# Altium integrated library BB Converter Digital to Analog.IntLib: 269 symbols (part 6 of 6)
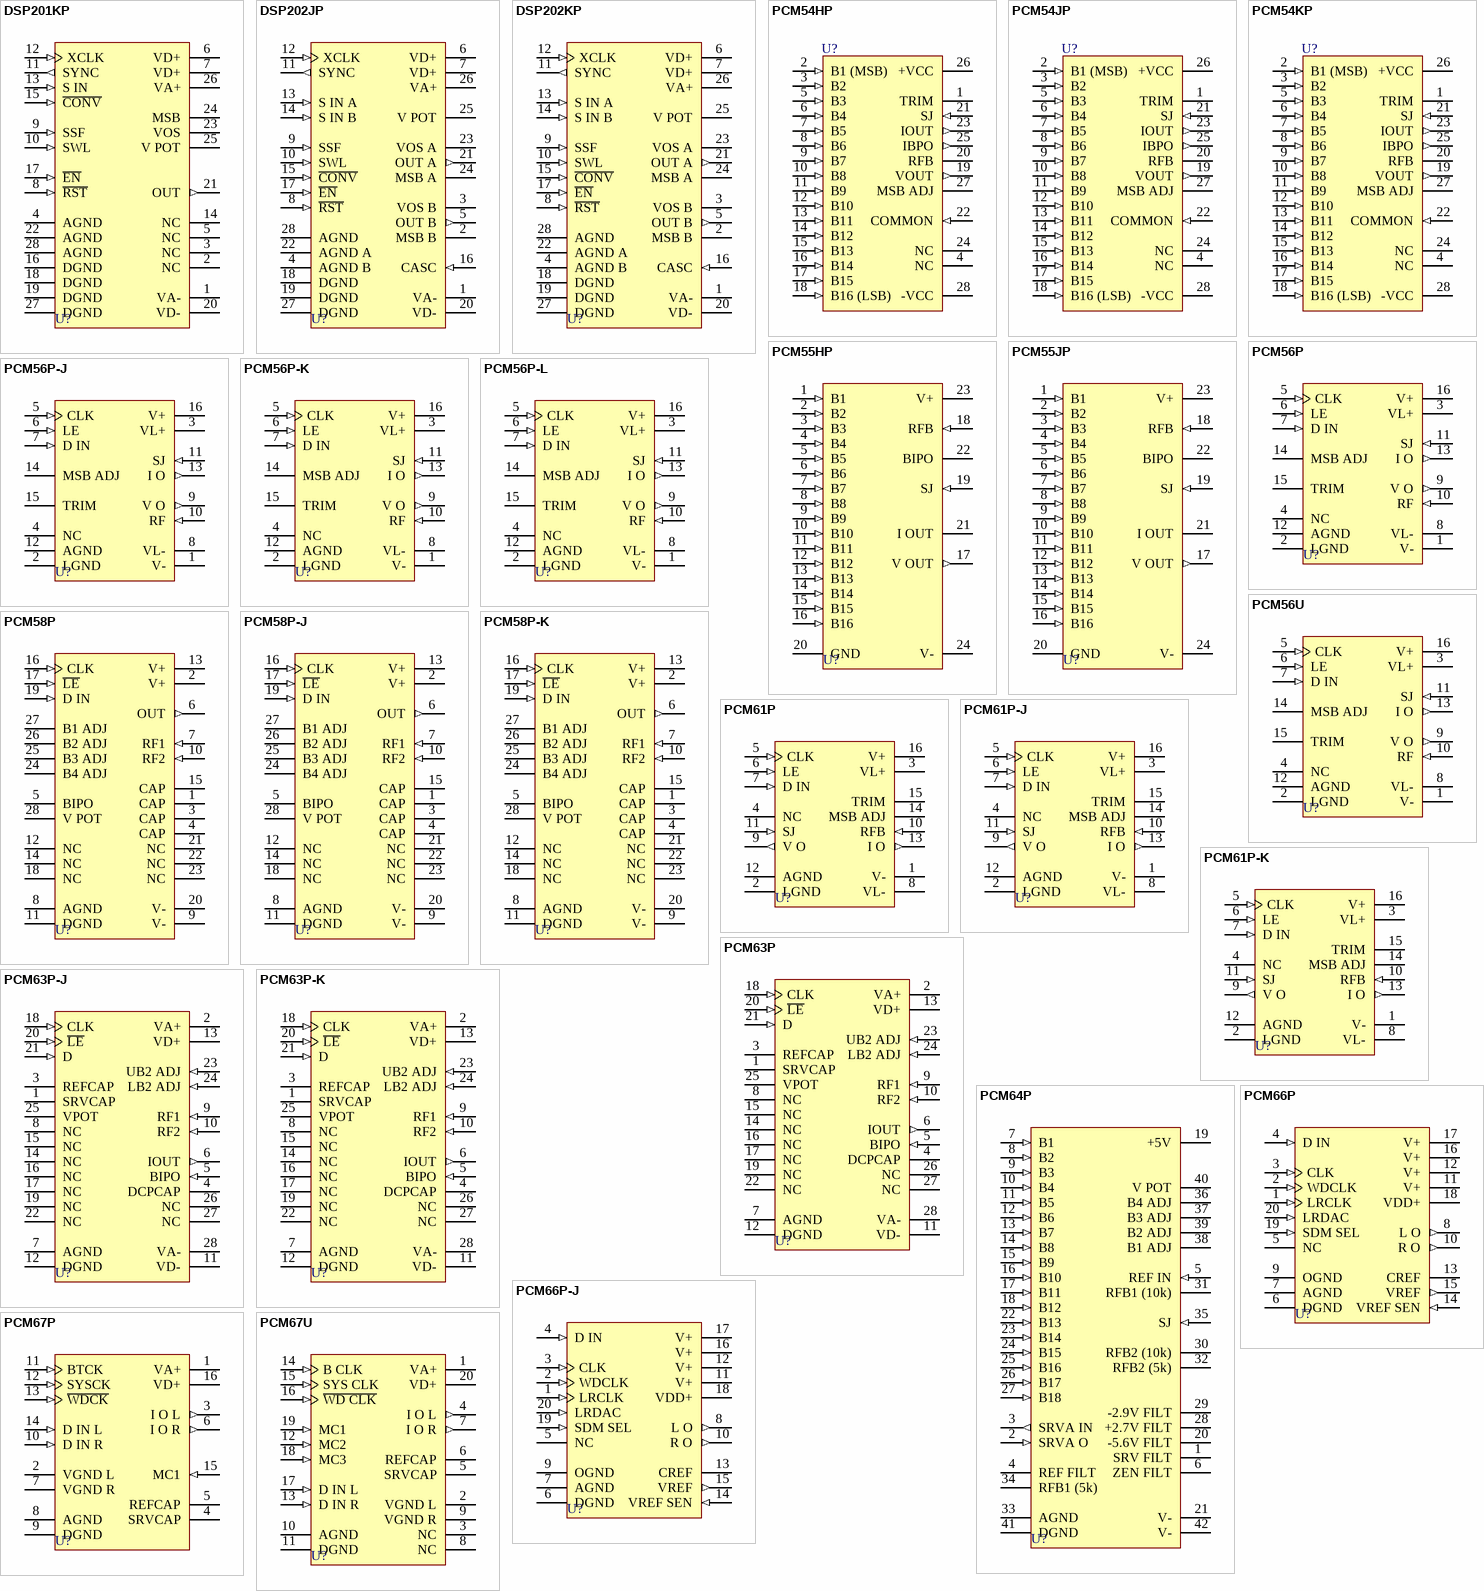
[diagram p15: symbols DSP201KP to PCM67U]

## PCM63P
designator U?
Colinear 20-Bit Monolithic Audio Digital-to-Analog Converter; Note: Pin 8,14,15,16,17,19,22,26 and 27 are No internal Connection (NC) pins.; Published: 8-Jun-2000; LatestRevisionDate: 06-Jun-2005; LatestRevisionNote: Stylized 3D Model Added.; DatasheetVersion: Jan-1998; PackageVersion: revJ; PackageReference: 215J; Publisher: Altium Limited; PackageDescription: DIP; 28 Leads; Row Spacing 15.24 mm; Pitch 2.54 mm; Code_JEDEC: MS-011-AB; ComponentLink1Description: Manufacturer Link; ComponentLink1URL: http://www.ti.com/; ComponentLink2Description: Datasheet; ComponentLink2URL: http://www-s.ti.com/sc/ds/PCM63.pdf
footprint 215J (DIP; 28 Leads; Row Spacing 15.24 mm; Pitch 2.54 mm)
3D model 215J (DIP; 28 Leads; Row Spacing 15.24 mm; Pitch 2.54 mm)
pins: 1 SRVCAP, 2 VA+ (power), 3 REFCAP, 4 DCPCAP, 5 BIPO (in), 6 IOUT (out), 7 AGND (power), 8 NC, 9 RF1 (in), 10 RF2 (in), 11 VD- (power), 12 DGND (power), 13 VD+ (power), 14 NC, 15 NC, 16 NC, 17 NC, 18 CLK (in), 19 NC, 20 ~{LE} (in), 21 D (in), 22 NC, 23 UB2 ADJ (in), 24 LB2 ADJ (in), 25 VPOT, 26 NC, 27 NC, 28 VA- (power)

## PCM63P-J
designator U?
Colinear 20-Bit Monolithic Audio Digital-to-Analog Converter; Note: Pin 8,14,15,16,17,19,22,26 and 27 are No internal Connection (NC) pins.; Published: 8-Jun-2000; LatestRevisionDate: 06-Jun-2005; LatestRevisionNote: Stylized 3D Model Added.; DatasheetVersion: Jan-1998; PackageVersion: revJ; PackageReference: 215J; Publisher: Altium Limited; PackageDescription: DIP; 28 Leads; Row Spacing 15.24 mm; Pitch 2.54 mm; Code_JEDEC: MS-011-AB; ComponentLink1Description: Manufacturer Link; ComponentLink1URL: http://www.ti.com/; ComponentLink2Description: Datasheet; ComponentLink2URL: http://www-s.ti.com/sc/ds/PCM63.pdf
footprint 215J (DIP; 28 Leads; Row Spacing 15.24 mm; Pitch 2.54 mm)
3D model 215J (DIP; 28 Leads; Row Spacing 15.24 mm; Pitch 2.54 mm)
pins: 1 SRVCAP, 2 VA+ (power), 3 REFCAP, 4 DCPCAP, 5 BIPO (in), 6 IOUT (out), 7 AGND (power), 8 NC, 9 RF1 (in), 10 RF2 (in), 11 VD- (power), 12 DGND (power), 13 VD+ (power), 14 NC, 15 NC, 16 NC, 17 NC, 18 CLK (in), 19 NC, 20 ~{LE} (in), 21 D (in), 22 NC, 23 UB2 ADJ (in), 24 LB2 ADJ (in), 25 VPOT, 26 NC, 27 NC, 28 VA- (power)

## PCM63P-K
designator U?
Colinear 20-Bit Monolithic Audio Digital-to-Analog Converter; Note: Pin 8,14,15,16,17,19,22,26 and 27 are No internal Connection (NC) pins.; Published: 8-Jun-2000; LatestRevisionDate: 06-Jun-2005; LatestRevisionNote: Stylized 3D Model Added.; DatasheetVersion: Jan-1998; PackageVersion: revJ; PackageReference: 215J; Publisher: Altium Limited; PackageDescription: DIP; 28 Leads; Row Spacing 15.24 mm; Pitch 2.54 mm; Code_JEDEC: MS-011-AB; ComponentLink1Description: Manufacturer Link; ComponentLink1URL: http://www.ti.com/; ComponentLink2Description: Datasheet; ComponentLink2URL: http://www-s.ti.com/sc/ds/PCM63.pdf
footprint 215J (DIP; 28 Leads; Row Spacing 15.24 mm; Pitch 2.54 mm)
3D model 215J (DIP; 28 Leads; Row Spacing 15.24 mm; Pitch 2.54 mm)
pins: 1 SRVCAP, 2 VA+ (power), 3 REFCAP, 4 DCPCAP, 5 BIPO (in), 6 IOUT (out), 7 AGND (power), 8 NC, 9 RF1 (in), 10 RF2 (in), 11 VD- (power), 12 DGND (power), 13 VD+ (power), 14 NC, 15 NC, 16 NC, 17 NC, 18 CLK (in), 19 NC, 20 ~{LE} (in), 21 D (in), 22 NC, 23 UB2 ADJ (in), 24 LB2 ADJ (in), 25 VPOT, 26 NC, 27 NC, 28 VA- (power)

## PCM64P
designator U?
18-Bit Audio Digital-to-Analog Converter; Published: 8-Jun-2000; LatestRevisionDate: 06-Jun-2005; LatestRevisionNote: Stylized 3D Model Added.; DatasheetVersion: 1989; PackageReference: DIP42; Publisher: Altium Limited; PackageDescription: DIP; 42 Leads; Row Spacing 15.24 mm; Pitch 1.78 mm; ComponentLink1Description: Manufacturer Link; ComponentLink1URL: http://www.ti.com/
footprint DIP42 (DIP; 42 Leads; Row Spacing 15.24 mm; Pitch 1.78 mm)
3D model DIP42 (DIP; 42 Leads; Row Spacing 15.24 mm; Pitch 1.78 mm)
pins: 1 SRV FILT, 2 SRVA O (in), 3 SRVA IN (out), 4 REF FILT, 5 REF IN (in), 6 ZEN FILT, 7 B1 (in), 8 B2 (in), 9 B3 (in), 10 B4 (in), 11 B5 (in), 12 B6 (in), 13 B7 (in), 14 B8 (in), 15 B9 (in), 16 B10 (in), 17 B11 (in), 18 B12 (in), 19 +5V (power), 20 -5.6V FILT, 21 V- (power), 22 B13 (in), 23 B14 (in), 24 B15 (in), 25 B16 (in), 26 B17 (in), 27 B18 (in), 28 +2.7V FILT, 29 -2.9V FILT, 30 RFB2 (10k), 31 RFB1 (10k), 32 RFB2 (5k), 33 AGND (power), 34 RFB1 (5k), 35 SJ (in), 36 B4 ADJ, 37 B3 ADJ, 38 B1 ADJ, 39 B2 ADJ, 40 V POT, 41 DGND (power), 42 V- (power)

## PCM66P
designator U?
16-Bit CMOS Monolithic Audio Digital-to-Analog Converter; Note: Pin 5 is No internal Connection (NC) pin.; Published: 8-Jun-2000; LatestRevisionDate: 13-Apr-2006; LatestRevisionNote: IPC-7351 Footprint Added.; DatasheetVersion: 1994; PackageReference: 248B; Publisher: Altium Limited; PackageDescription: 20-Pin Small Outline Package 1.27 mm Pitch; ComponentLink1Description: Manufacturer Link; ComponentLink1URL: http://www.ti.com/
footprint 248B_N (SOP, 20-Leads, Body 12.6x5.3mm, Pitch 1.27mm, IPC Medium Density)
footprint 248B_L (SOP, 20-Leads, Body 12.6x5.3mm, Pitch 1.27mm, IPC High Density)
footprint 248B_M (SOP, 20-Leads, Body 12.6x5.3mm, Pitch 1.27mm, IPC Low Density)
3D model 248B (20-Pin Small Outline Package 1.27 mm Pitch)
pins: 1 LRCLK (in), 2 WDCLK (in), 3 CLK (in), 4 D IN (in), 5 NC, 6 DGND (power), 7 AGND (power), 8 L O (out), 9 OGND (power), 10 R O (out), 11 V+ (power), 12 V+ (power), 13 CREF, 14 VREF SEN (in), 15 VREF (out), 16 V+ (power), 17 V+ (power), 18 VDD+ (power), 19 SDM SEL (in), 20 LRDAC (in)

## PCM66P-J
designator U?
16-Bit CMOS Monolithic Audio Digital-to-Analog Converter; Note: Pin 5 is No internal Connection (NC) pin.; Published: 8-Jun-2000; LatestRevisionDate: 13-Apr-2006; LatestRevisionNote: IPC-7351 Footprint Added.; DatasheetVersion: 1994; PackageReference: 248B; Publisher: Altium Limited; PackageDescription: 20-Pin Small Outline Package 1.27 mm Pitch; ComponentLink1Description: Manufacturer Link; ComponentLink1URL: http://www.ti.com/
footprint 248B_N (SOP, 20-Leads, Body 12.6x5.3mm, Pitch 1.27mm, IPC Medium Density)
footprint 248B_L (SOP, 20-Leads, Body 12.6x5.3mm, Pitch 1.27mm, IPC High Density)
footprint 248B_M (SOP, 20-Leads, Body 12.6x5.3mm, Pitch 1.27mm, IPC Low Density)
3D model 248B (20-Pin Small Outline Package 1.27 mm Pitch)
pins: 1 LRCLK (in), 2 WDCLK (in), 3 CLK (in), 4 D IN (in), 5 NC, 6 DGND (power), 7 AGND (power), 8 L O (out), 9 OGND (power), 10 R O (out), 11 V+ (power), 12 V+ (power), 13 CREF, 14 VREF SEN (in), 15 VREF (out), 16 V+ (power), 17 V+ (power), 18 VDD+ (power), 19 SDM SEL (in), 20 LRDAC (in)

## PCM67P
designator U?
Advanced 1 Bit BiCMOS Dual 18-Bit Digital-to-Analog Converter; Published: 8-Jun-2000; LatestRevisionDate: 06-Jun-2005; LatestRevisionNote: Stylized 3D Model Added.; DatasheetVersion: Aug-1993; PackageVersion: revF; PackageReference: ZZ180; Publisher: Altium Limited; PackageDescription: DIP, Plastic; 16 Leads; Row Spacing 7.62 mm; Pitch 2.54 mm; Code_JEDEC: MS-001-BB; ComponentLink1Description: Manufacturer Link; ComponentLink1URL: http://www.ti.com/; ComponentLink2Description: Datasheet; ComponentLink2URL: http://www-s.ti.com/sc/ds/PCM69.pdf
footprint ZZ180 (DIP, Plastic; 16 Leads; Row Spacing 7.62 mm; Pitch 2.54 mm)
3D model ZZ180 (DIP, Plastic; 16 Leads; Row Spacing 7.62 mm; Pitch 2.54 mm)
pins: 1 VA+ (power), 2 VGND L (power), 3 I O L (out), 4 SRVCAP, 5 REFCAP, 6 I O R (out), 7 VGND R (power), 8 AGND (power), 9 DGND (power), 10 D IN R (in), 11 BTCK (in), 12 SYSCK (in), 13 ~{WDCK} (in), 14 D IN L (in), 15 MC1 (in), 16 VD+ (power)

## PCM67U
designator U?
Advanced 1 Bit BiCMOS Dual 18-Bit Digital-to-Analog Converter; Note: Pin 3 and 8 are No internal Connection (NC) pins.; Published: 8-Jun-2000; LatestRevisionDate: 13-Apr-2006; LatestRevisionNote: IPC-7351 Footprint Added.; DatasheetVersion: Aug-1993; PackageReference: 248B; Publisher: Altium Limited; PackageDescription: 20-Pin Small Outline Package 1.27 mm Pitch; ComponentLink1Description: Manufacturer Link; ComponentLink1URL: http://www.ti.com/; ComponentLink2Description: Datasheet; ComponentLink2URL: http://www-s.ti.com/sc/ds/PCM69.pdf
footprint 248B_N (SOP, 20-Leads, Body 12.6x5.3mm, Pitch 1.27mm, IPC Medium Density)
footprint 248B_L (SOP, 20-Leads, Body 12.6x5.3mm, Pitch 1.27mm, IPC High Density)
footprint 248B_M (SOP, 20-Leads, Body 12.6x5.3mm, Pitch 1.27mm, IPC Low Density)
3D model 248B (20-Pin Small Outline Package 1.27 mm Pitch)
pins: 1 VA+ (power), 2 VGND L (power), 3 NC, 4 I O L (out), 5 SRVCAP, 6 REFCAP, 7 I O R (out), 8 NC, 9 VGND R (power), 10 AGND (power), 11 DGND (power), 12 MC2 (in), 13 D IN R (in), 14 B CLK (in), 15 SYS CLK (in), 16 ~{WD CLK} (in), 17 D IN L (in), 18 MC3 (in), 19 MC1 (in), 20 VD+ (power)

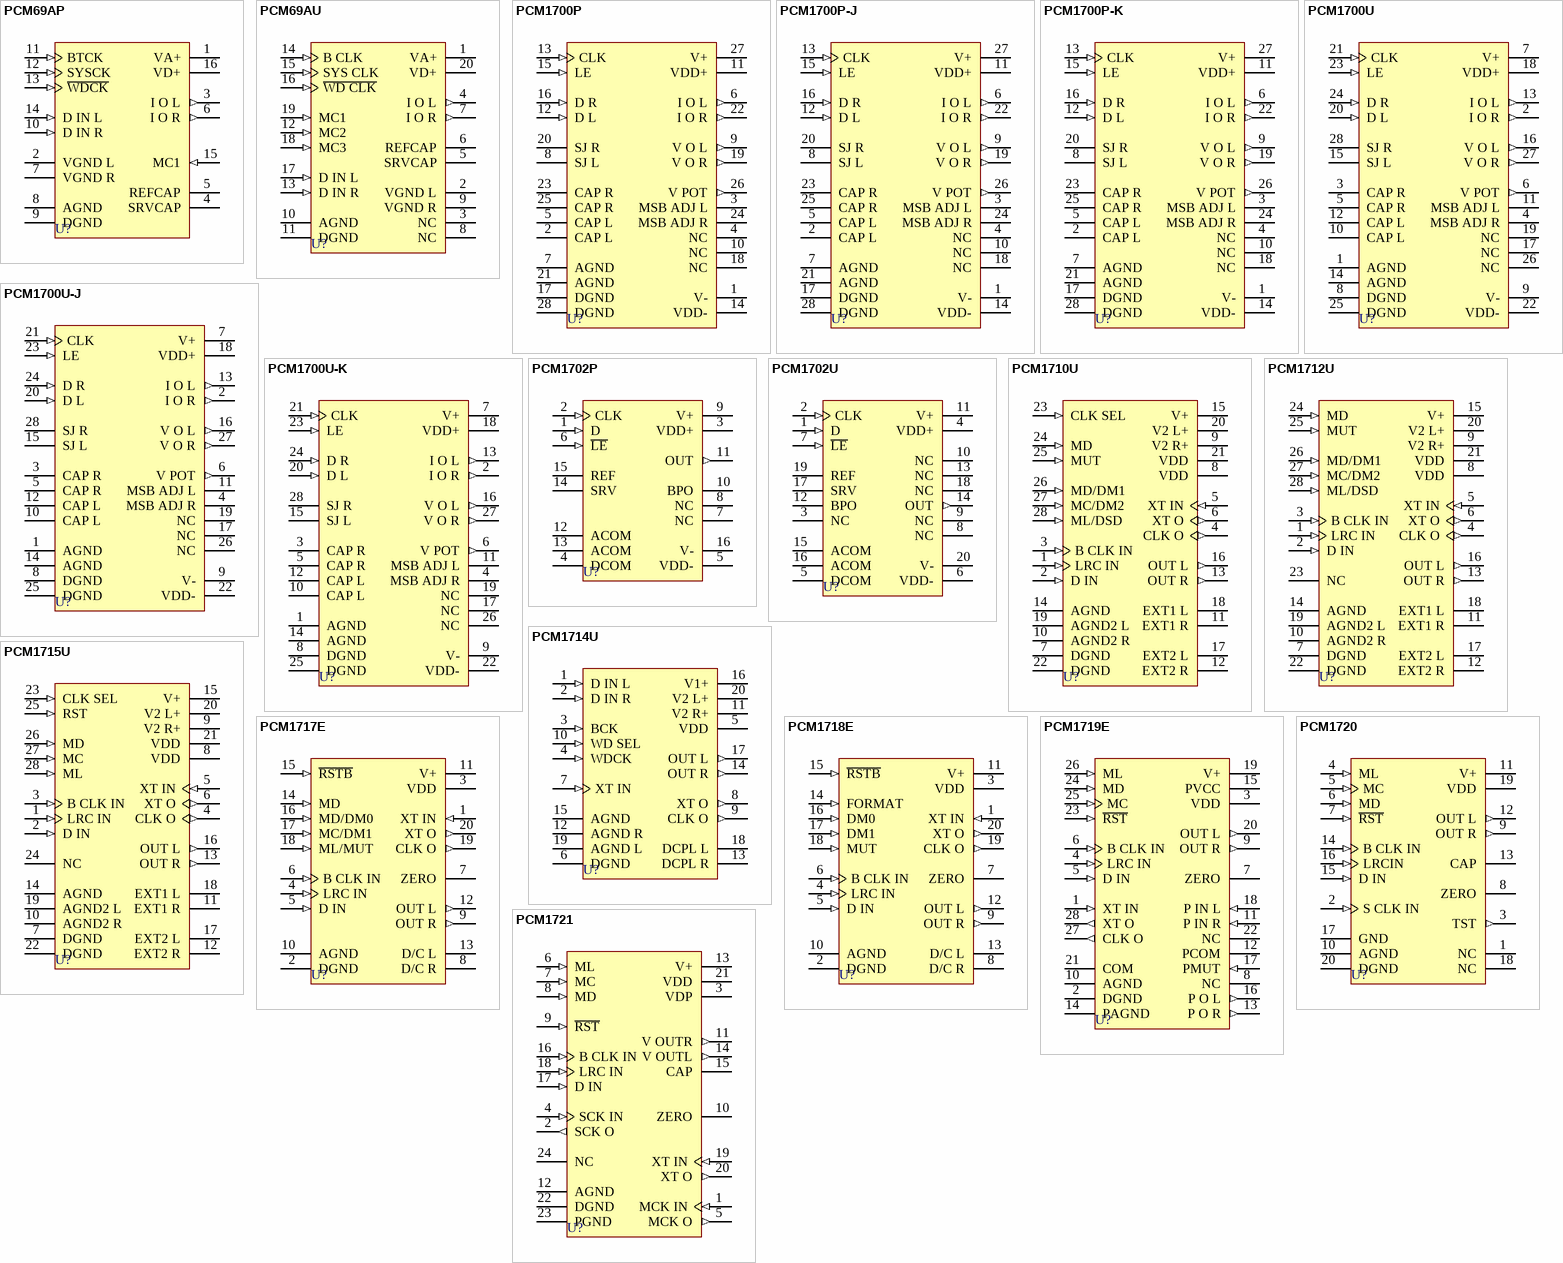
[diagram p10: symbols PCM69AP to PCM1721]

## PCM69AP
designator U?
Advanced 1 Bit BiCMOS Dual 18-Bit Digital-to-Analog Converter; Published: 8-Jun-2000; LatestRevisionDate: 06-Jun-2005; LatestRevisionNote: Stylized 3D Model Added.; DatasheetVersion: Aug-1993; PackageVersion: revF; PackageReference: ZZ180; Publisher: Altium Limited; PackageDescription: DIP, Plastic; 16 Leads; Row Spacing 7.62 mm; Pitch 2.54 mm; Code_JEDEC: MS-001-BB; ComponentLink1Description: Manufacturer Link; ComponentLink1URL: http://www.ti.com/; ComponentLink2Description: Datasheet; ComponentLink2URL: http://www-s.ti.com/sc/ds/PCM69.pdf
footprint ZZ180 (DIP, Plastic; 16 Leads; Row Spacing 7.62 mm; Pitch 2.54 mm)
3D model ZZ180 (DIP, Plastic; 16 Leads; Row Spacing 7.62 mm; Pitch 2.54 mm)
pins: 1 VA+ (power), 2 VGND L (power), 3 I O L (out), 4 SRVCAP, 5 REFCAP, 6 I O R (out), 7 VGND R (power), 8 AGND (power), 9 DGND (power), 10 D IN R (in), 11 BTCK (in), 12 SYSCK (in), 13 ~{WDCK} (in), 14 D IN L (in), 15 MC1 (in), 16 VD+ (power)

## PCM69AU
designator U?
Advanced 1 Bit BiCMOS Dual 18-Bit Digital-to-Analog Converter; Note: Pin 3 and 8 are No internal Connection (NC) pins.; Published: 8-Jun-2000; LatestRevisionDate: 13-Apr-2006; LatestRevisionNote: IPC-7351 Footprint Added.; DatasheetVersion: Aug-1993; PackageReference: 248B; Publisher: Altium Limited; PackageDescription: 20-Pin Small Outline Package 1.27 mm Pitch; ComponentLink1Description: Manufacturer Link; ComponentLink1URL: http://www.ti.com/; ComponentLink2Description: Datasheet; ComponentLink2URL: http://www-s.ti.com/sc/ds/PCM69.pdf
footprint 248B_N (SOP, 20-Leads, Body 12.6x5.3mm, Pitch 1.27mm, IPC Medium Density)
footprint 248B_L (SOP, 20-Leads, Body 12.6x5.3mm, Pitch 1.27mm, IPC High Density)
footprint 248B_M (SOP, 20-Leads, Body 12.6x5.3mm, Pitch 1.27mm, IPC Low Density)
3D model 248B (20-Pin Small Outline Package 1.27 mm Pitch)
pins: 1 VA+ (power), 2 VGND L (power), 3 NC, 4 I O L (out), 5 SRVCAP, 6 REFCAP, 7 I O R (out), 8 NC, 9 VGND R (power), 10 AGND (power), 11 DGND (power), 12 MC2 (in), 13 D IN R (in), 14 B CLK (in), 15 SYS CLK (in), 16 ~{WD CLK} (in), 17 D IN L (in), 18 MC3 (in), 19 MC1 (in), 20 VD+ (power)

## PCM1700P
designator U?
Dual 18-Bit Monolithic Audio Digital-to-Analog Converter; Note: Pins 4,10 and 18 are No internal Connection (NC) pins.; Published: 8-Jun-2000; LatestRevisionDate: 06-Jun-2005; LatestRevisionNote: Stylized 3D Model Added.; DatasheetVersion: Aug-1993; PackageVersion: revB; PackageReference: 126B; Publisher: Altium Limited; PackageDescription: DIP; 28 Leads; Row Spacing 15.24 mm; Pitch 2.54 mm; ComponentLink1Description: Manufacturer Link; ComponentLink1URL: http://www.ti.com/
footprint 126B (DIP; 28 Leads; Row Spacing 15.24 mm; Pitch 2.54 mm)
3D model P28 (DIP; 28 Leads; Row Spacing 15.24 mm; Pitch 2.54 mm)
pins: 1 V- (power), 2 CAP L, 3 MSB ADJ L, 4 NC, 5 CAP L, 6 I O L (out), 7 AGND (power), 8 SJ L, 9 V O L (out), 10 NC, 11 VDD+ (power), 12 D L (in), 13 CLK (in), 14 VDD- (power), 15 LE (in), 16 D R (in), 17 DGND (power), 18 NC, 19 V O R (out), 20 SJ R, 21 AGND (power), 22 I O R (out), 23 CAP R, 24 MSB ADJ R, 25 CAP R, 26 V POT (out), 27 V+ (power), 28 DGND (power)

## PCM1700P-J
designator U?
Dual 18-Bit Monolithic Audio Digital-to-Analog Converter; Note: Pins 4,10 and 18 are No internal Connection (NC) pins.; Published: 8-Jun-2000; LatestRevisionDate: 06-Jun-2005; LatestRevisionNote: Stylized 3D Model Added.; DatasheetVersion: Aug-1993; PackageVersion: revB; PackageReference: 126B; Publisher: Altium Limited; PackageDescription: DIP; 28 Leads; Row Spacing 15.24 mm; Pitch 2.54 mm; ComponentLink1Description: Manufacturer Link; ComponentLink1URL: http://www.ti.com/
footprint 126B (DIP; 28 Leads; Row Spacing 15.24 mm; Pitch 2.54 mm)
3D model P28 (DIP; 28 Leads; Row Spacing 15.24 mm; Pitch 2.54 mm)
pins: 1 V- (power), 2 CAP L, 3 MSB ADJ L, 4 NC, 5 CAP L, 6 I O L (out), 7 AGND (power), 8 SJ L, 9 V O L (out), 10 NC, 11 VDD+ (power), 12 D L (in), 13 CLK (in), 14 VDD- (power), 15 LE (in), 16 D R (in), 17 DGND (power), 18 NC, 19 V O R (out), 20 SJ R, 21 AGND (power), 22 I O R (out), 23 CAP R, 24 MSB ADJ R, 25 CAP R, 26 V POT (out), 27 V+ (power), 28 DGND (power)

## PCM1700P-K
designator U?
Dual 18-Bit Monolithic Audio Digital-to-Analog Converter; Note: Pins 4,10 and 18 are No internal Connection (NC) pins.; Published: 8-Jun-2000; LatestRevisionDate: 06-Jun-2005; LatestRevisionNote: Stylized 3D Model Added.; DatasheetVersion: Aug-1993; PackageVersion: revB; PackageReference: 126B; Publisher: Altium Limited; PackageDescription: DIP; 28 Leads; Row Spacing 15.24 mm; Pitch 2.54 mm; ComponentLink1Description: Manufacturer Link; ComponentLink1URL: http://www.ti.com/
footprint 126B (DIP; 28 Leads; Row Spacing 15.24 mm; Pitch 2.54 mm)
3D model P28 (DIP; 28 Leads; Row Spacing 15.24 mm; Pitch 2.54 mm)
pins: 1 V- (power), 2 CAP L, 3 MSB ADJ L, 4 NC, 5 CAP L, 6 I O L (out), 7 AGND (power), 8 SJ L, 9 V O L (out), 10 NC, 11 VDD+ (power), 12 D L (in), 13 CLK (in), 14 VDD- (power), 15 LE (in), 16 D R (in), 17 DGND (power), 18 NC, 19 V O R (out), 20 SJ R, 21 AGND (power), 22 I O R (out), 23 CAP R, 24 MSB ADJ R, 25 CAP R, 26 V POT (out), 27 V+ (power), 28 DGND (power)

## PCM1700U
designator U?
Dual 18-Bit Monolithic Audio Digital-to-Analog Converter; Note: Pins 17,19 and 26 are No internal Connection (NC) pins.; Published: 8-Jun-2000; LatestRevisionDate: 13-Apr-2006; LatestRevisionNote: IPC-7351 Footprint Added.; DatasheetVersion: Aug-1993; PackageReference: 217G; Publisher: Altium Limited; PackageDescription: 28-Pin Small Outline Integrated Circuit 1.27 mm Pitch; ComponentLink1Description: Manufacturer Link; ComponentLink1URL: http://www.ti.com/
footprint 217G_N (SOIC, 28-Leads, Body 17.9x7.5mm, Pitch 1.27mm, IPC Medium Density)
footprint 217G_L (SOIC, 28-Leads, Body 17.9x7.5mm, Pitch 1.27mm, IPC High Density)
footprint 217G_M (SOIC, 28-Leads, Body 17.9x7.5mm, Pitch 1.27mm, IPC Low Density)
3D model 217G (28-Pin Small Outline Integrated Circuit 1.27 mm Pitch)
pins: 1 AGND (power), 2 I O R (out), 3 CAP R, 4 MSB ADJ R, 5 CAP R, 6 V POT (out), 7 V+ (power), 8 DGND (power), 9 V- (power), 10 CAP L, 11 MSB ADJ L, 12 CAP L, 13 I O L (out), 14 AGND (power), 15 SJ L, 16 V O L (out), 17 NC, 18 VDD+ (power), 19 NC, 20 D L (in), 21 CLK (in), 22 VDD- (power), 23 LE (in), 24 D R (in), 25 DGND (power), 26 NC, 27 V O R (out), 28 SJ R

## PCM1700U-J
designator U?
Dual 18-Bit Monolithic Audio Digital-to-Analog Converter; Note: Pins 17,19 and 26 are No internal Connection (NC) pins.; Published: 8-Jun-2000; LatestRevisionDate: 13-Apr-2006; LatestRevisionNote: IPC-7351 Footprint Added.; DatasheetVersion: Aug-1993; PackageReference: 217G; Publisher: Altium Limited; PackageDescription: 28-Pin Small Outline Integrated Circuit 1.27 mm Pitch; ComponentLink1Description: Manufacturer Link; ComponentLink1URL: http://www.ti.com/
footprint 217G_N (SOIC, 28-Leads, Body 17.9x7.5mm, Pitch 1.27mm, IPC Medium Density)
footprint 217G_L (SOIC, 28-Leads, Body 17.9x7.5mm, Pitch 1.27mm, IPC High Density)
footprint 217G_M (SOIC, 28-Leads, Body 17.9x7.5mm, Pitch 1.27mm, IPC Low Density)
3D model 217G (28-Pin Small Outline Integrated Circuit 1.27 mm Pitch)
pins: 1 AGND (power), 2 I O R (out), 3 CAP R, 4 MSB ADJ R, 5 CAP R, 6 V POT (out), 7 V+ (power), 8 DGND (power), 9 V- (power), 10 CAP L, 11 MSB ADJ L, 12 CAP L, 13 I O L (out), 14 AGND (power), 15 SJ L, 16 V O L (out), 17 NC, 18 VDD+ (power), 19 NC, 20 D L (in), 21 CLK (in), 22 VDD- (power), 23 LE (in), 24 D R (in), 25 DGND (power), 26 NC, 27 V O R (out), 28 SJ R

## PCM1700U-K
designator U?
Dual 18-Bit Monolithic Audio Digital-to-Analog Converter; Note: Pins 17,19 and 26 are No internal Connection (NC) pins.; Published: 8-Jun-2000; LatestRevisionDate: 13-Apr-2006; LatestRevisionNote: IPC-7351 Footprint Added.; DatasheetVersion: Aug-1993; PackageReference: 217G; Publisher: Altium Limited; PackageDescription: 28-Pin Small Outline Integrated Circuit 1.27 mm Pitch; ComponentLink1Description: Manufacturer Link; ComponentLink1URL: http://www.ti.com/
footprint 217G_N (SOIC, 28-Leads, Body 17.9x7.5mm, Pitch 1.27mm, IPC Medium Density)
footprint 217G_L (SOIC, 28-Leads, Body 17.9x7.5mm, Pitch 1.27mm, IPC High Density)
footprint 217G_M (SOIC, 28-Leads, Body 17.9x7.5mm, Pitch 1.27mm, IPC Low Density)
3D model 217G (28-Pin Small Outline Integrated Circuit 1.27 mm Pitch)
pins: 1 AGND (power), 2 I O R (out), 3 CAP R, 4 MSB ADJ R, 5 CAP R, 6 V POT (out), 7 V+ (power), 8 DGND (power), 9 V- (power), 10 CAP L, 11 MSB ADJ L, 12 CAP L, 13 I O L (out), 14 AGND (power), 15 SJ L, 16 V O L (out), 17 NC, 18 VDD+ (power), 19 NC, 20 D L (in), 21 CLK (in), 22 VDD- (power), 23 LE (in), 24 D R (in), 25 DGND (power), 26 NC, 27 V O R (out), 28 SJ R

## PCM1702P
designator U?
BiCMOS Advanced Sign Magnitude 20-Bit Digital-to-Analog Converter; Note: Pins 7 and 8 are No internal Connection (NC) pins.; Published: 8-Jun-2000; LatestRevisionDate: 06-Jun-2005; LatestRevisionNote: Stylized 3D Model Added.; DatasheetVersion: Jun-1995; PackageVersion: revF; PackageReference: ZZ180; Publisher: Altium Limited; PackageDescription: DIP, Plastic; 16 Leads; Row Spacing 7.62 mm; Pitch 2.54 mm; Code_JEDEC: MS-001-BB; ComponentLink1Description: Manufacturer Link; ComponentLink1URL: http://www.ti.com/; ComponentLink2Description: Datasheet; ComponentLink2URL: http://www-s.ti.com/sc/ds/PCM1702.pdf
footprint ZZ180 (DIP, Plastic; 16 Leads; Row Spacing 7.62 mm; Pitch 2.54 mm)
3D model ZZ180 (DIP, Plastic; 16 Leads; Row Spacing 7.62 mm; Pitch 2.54 mm)
pins: 1 D (in), 2 CLK (in), 3 VDD+ (power), 4 DCOM (power), 5 VDD- (power), 6 ~{LE} (in), 7 NC, 8 NC, 9 V+ (power), 10 BPO, 11 OUT (out), 12 ACOM (power), 13 ACOM (power), 14 SRV, 15 REF, 16 V- (power)

## PCM1702U
designator U?
BiCMOS Advanced Sign Magnitude 20-Bit Digital-to-Analog Converter; Note: Pins 3,8-10,13 and 18 are No internal Connection (NC) pins.; Published: 8-Jun-2000; LatestRevisionDate: 13-Apr-2006; LatestRevisionNote: IPC-7351 Footprint Added.; DatasheetVersion: Jun-1995; PackageReference: 248B; Publisher: Altium Limited; PackageDescription: 20-Pin Small Outline Package 1.27 mm Pitch; ComponentLink1Description: Manufacturer Link; ComponentLink1URL: http://www.ti.com/; ComponentLink2Description: Datasheet; ComponentLink2URL: http://www-s.ti.com/sc/ds/PCM1702.pdf
footprint 248B_N (SOP, 20-Leads, Body 12.6x5.3mm, Pitch 1.27mm, IPC Medium Density)
footprint 248B_L (SOP, 20-Leads, Body 12.6x5.3mm, Pitch 1.27mm, IPC High Density)
footprint 248B_M (SOP, 20-Leads, Body 12.6x5.3mm, Pitch 1.27mm, IPC Low Density)
3D model 248B (20-Pin Small Outline Package 1.27 mm Pitch)
pins: 1 D (in), 2 CLK (in), 3 NC, 4 VDD+ (power), 5 DCOM (power), 6 VDD- (power), 7 ~{LE} (in), 8 NC, 9 NC, 10 NC, 11 V+ (power), 12 BPO, 13 NC, 14 OUT (out), 15 ACOM (power), 16 ACOM (power), 17 SRV, 18 NC, 19 REF, 20 V- (power)

## PCM1710U
designator U?
Stereo Audio Digital-to-Analog Converter; Published: 8-Jun-2000; LatestRevisionDate: 13-Apr-2006; LatestRevisionNote: IPC-7351 Footprint Added.; DatasheetVersion: Jun-1995; PackageReference: 217G; Publisher: Altium Limited; PackageDescription: 28-Pin Small Outline Integrated Circuit 1.27 mm Pitch; ComponentLink1Description: Manufacturer Link; ComponentLink1URL: http://www.ti.com/; ComponentLink2Description: Datasheet; ComponentLink2URL: http://www-s.ti.com/sc/ds/PCM1710.pdf
footprint 217G_N (SOIC, 28-Leads, Body 17.9x7.5mm, Pitch 1.27mm, IPC Medium Density)
footprint 217G_L (SOIC, 28-Leads, Body 17.9x7.5mm, Pitch 1.27mm, IPC High Density)
footprint 217G_M (SOIC, 28-Leads, Body 17.9x7.5mm, Pitch 1.27mm, IPC Low Density)
3D model 217G (28-Pin Small Outline Integrated Circuit 1.27 mm Pitch)
pins: 1 LRC IN (in), 2 D IN (in), 3 B CLK IN (in), 4 CLK O (out), 5 XT IN (in), 6 XT O (out), 7 DGND (power), 8 VDD (power), 9 V2 R+ (power), 10 AGND2 R (power), 11 EXT1 R, 12 EXT2 R, 13 OUT R (out), 14 AGND (power), 15 V+ (power), 16 OUT L (out), 17 EXT2 L, 18 EXT1 L, 19 AGND2 L (power), 20 V2 L+ (power), 21 VDD (power), 22 DGND (power), 23 CLK SEL (in), 24 MD (in), 25 MUT (in), 26 MD/DM1 (in), 27 MC/DM2 (in), 28 ML/DSD (in)

## PCM1712U
designator U?
Stereo Audio Digital-to-Analog Converter; Note: Pin 23 is No internal Connection (NC) pin.; Published: 8-Jun-2000; LatestRevisionDate: 13-Apr-2006; LatestRevisionNote: IPC-7351 Footprint Added.; DatasheetVersion: 1996~1997; PackageReference: 217G; Publisher: Altium Limited; PackageDescription: 28-Pin Small Outline Integrated Circuit 1.27 mm Pitch; ComponentLink1Description: Manufacturer Link; ComponentLink1URL: http://www.ti.com/
footprint 217G_N (SOIC, 28-Leads, Body 17.9x7.5mm, Pitch 1.27mm, IPC Medium Density)
footprint 217G_L (SOIC, 28-Leads, Body 17.9x7.5mm, Pitch 1.27mm, IPC High Density)
footprint 217G_M (SOIC, 28-Leads, Body 17.9x7.5mm, Pitch 1.27mm, IPC Low Density)
3D model 217G (28-Pin Small Outline Integrated Circuit 1.27 mm Pitch)
pins: 1 LRC IN (in), 2 D IN (in), 3 B CLK IN (in), 4 CLK O (out), 5 XT IN (in), 6 XT O (out), 7 DGND (power), 8 VDD (power), 9 V2 R+ (power), 10 AGND2 R (power), 11 EXT1 R, 12 EXT2 R, 13 OUT R (out), 14 AGND (power), 15 V+ (power), 16 OUT L (out), 17 EXT2 L, 18 EXT1 L, 19 AGND2 L (power), 20 V2 L+ (power), 21 VDD (power), 22 DGND (power), 23 NC, 24 MD (in), 25 MUT (in), 26 MD/DM1 (in), 27 MC/DM2 (in), 28 ML/DSD (in)

## PCM1714U
designator U?
Dual Voltage Output, CMOS Delta-Sigma Digital-to-Analog Converter; Published: 8-Jun-2000; LatestRevisionDate: 13-Apr-2006; LatestRevisionNote: IPC-7351 Footprint Added.; DatasheetVersion: 1995; PackageReference: 248B; Publisher: Altium Limited; PackageDescription: 20-Pin Small Outline Package 1.27 mm Pitch; ComponentLink1Description: Manufacturer Link; ComponentLink1URL: http://www.ti.com/
footprint 248B_N (SOP, 20-Leads, Body 12.6x5.3mm, Pitch 1.27mm, IPC Medium Density)
footprint 248B_L (SOP, 20-Leads, Body 12.6x5.3mm, Pitch 1.27mm, IPC High Density)
footprint 248B_M (SOP, 20-Leads, Body 12.6x5.3mm, Pitch 1.27mm, IPC Low Density)
3D model 248B (20-Pin Small Outline Package 1.27 mm Pitch)
pins: 1 D IN L (in), 2 D IN R (in), 3 BCK (in), 4 WDCK (in), 5 VDD (power), 6 DGND (power), 7 XT IN (in), 8 XT O (out), 9 CLK O (out), 10 WD SEL (in), 11 V2 R+ (power), 12 AGND R (power), 13 DCPL R, 14 OUT R (out), 15 AGND (power), 16 V1+ (power), 17 OUT L (out), 18 DCPL L, 19 AGND L (power), 20 V2 L+ (power)

## PCM1715U
designator U?
Dual Voltage Output CMOS Delta-Sigma Digital-to-Analog Converter with On-Chip Digital Filter; Note: Pin 24 is No internal Connection (NC) pin.; Published: 8-Jun-2000; LatestRevisionDate: 13-Apr-2006; LatestRevisionNote: IPC-7351 Footprint Added.; DatasheetVersion: 1996~1997; PackageReference: 217G; Publisher: Altium Limited; PackageDescription: 28-Pin Small Outline Integrated Circuit 1.27 mm Pitch; ComponentLink1Description: Manufacturer Link; ComponentLink1URL: http://www.ti.com/
footprint 217G_N (SOIC, 28-Leads, Body 17.9x7.5mm, Pitch 1.27mm, IPC Medium Density)
footprint 217G_L (SOIC, 28-Leads, Body 17.9x7.5mm, Pitch 1.27mm, IPC High Density)
footprint 217G_M (SOIC, 28-Leads, Body 17.9x7.5mm, Pitch 1.27mm, IPC Low Density)
3D model 217G (28-Pin Small Outline Integrated Circuit 1.27 mm Pitch)
pins: 1 LRC IN (in), 2 D IN (in), 3 B CLK IN (in), 4 CLK O (out), 5 XT IN (in), 6 XT O (out), 7 DGND (power), 8 VDD (power), 9 V2 R+ (power), 10 AGND2 R (power), 11 EXT1 R, 12 EXT2 R, 13 OUT R (out), 14 AGND (power), 15 V+ (power), 16 OUT L (out), 17 EXT2 L, 18 EXT1 L, 19 AGND2 L (power), 20 V2 L+ (power), 21 VDD (power), 22 DGND (power), 23 CLK SEL (in), 24 NC, 25 RST (in), 26 MD (in), 27 MC (in), 28 ML (in)

## PCM1717E
designator U?
Stereo Audio Digital-to-Analog Converter; Published: 8-Jun-2000; LatestRevisionDate: 06-Jun-2005; LatestRevisionNote: Stylized 3D Model Added.; DatasheetVersion: May-1997; PackageReference: 334-1A; Publisher: Altium Limited; PackageDescription: SSOP, Plastic; 20 Leads; Body Width 5.3 mm; Pitch 0.65 mm; Code_JEDEC: MO-150-AE; ComponentLink1Description: Manufacturer Link; ComponentLink1URL: http://www.ti.com/; ComponentLink2Description: Datasheet; ComponentLink2URL: http://www-s.ti.com/sc/ds/PCM1717.pdf
footprint 334-1A (SSOP, Plastic; 20 Leads; Body Width 5.3 mm; Pitch 0.65 mm)
3D model SSOP20 (SSOP, Plastic; 20 Leads; Body Width 5.3 mm; Pitch 0.65 mm)
pins: 1 XT IN (in), 2 DGND (power), 3 VDD (power), 4 LRC IN (in), 5 D IN (in), 6 B CLK IN (in), 7 ZERO (oc), 8 D/C R, 9 OUT R (out), 10 AGND (power), 11 V+ (power), 12 OUT L (out), 13 D/C L, 14 MD (in), 15 ~{RSTB} (in), 16 MD/DM0 (in), 17 MC/DM1 (in), 18 ML/MUT (in), 19 CLK O (out), 20 XT O (out)

## PCM1718E
designator U?
Stereo Audio Digital-to-Analog Converter; Published: 8-Jun-2000; LatestRevisionDate: 06-Jun-2005; LatestRevisionNote: Stylized 3D Model Added.; DatasheetVersion: Jun-1996; PackageReference: 334-1A; Publisher: Altium Limited; PackageDescription: SSOP, Plastic; 20 Leads; Body Width 5.3 mm; Pitch 0.65 mm; Code_JEDEC: MO-150-AE; ComponentLink1Description: Manufacturer Link; ComponentLink1URL: http://www.ti.com/; ComponentLink2Description: Datasheet; ComponentLink2URL: http://www-s.ti.com/sc/ds/PCM1718.pdf
footprint 334-1A (SSOP, Plastic; 20 Leads; Body Width 5.3 mm; Pitch 0.65 mm)
3D model SSOP20 (SSOP, Plastic; 20 Leads; Body Width 5.3 mm; Pitch 0.65 mm)
pins: 1 XT IN (in), 2 DGND (power), 3 VDD (power), 4 LRC IN (in), 5 D IN (in), 6 B CLK IN (in), 7 ZERO (oc), 8 D/C R, 9 OUT R (out), 10 AGND (power), 11 V+ (power), 12 OUT L (out), 13 D/C L, 14 FORMAT (in), 15 ~{RSTB} (in), 16 DM0 (in), 17 DM1 (in), 18 MUT (in), 19 CLK O (out), 20 XT O (out)

## PCM1719E
designator U?
Stereo Audio Digital-to-Analog Converter; Note: Pin 8 and 22 are No internal Connection (NC) pins.; Published: 8-Jun-2000; LatestRevisionDate: 06-Jun-2005; LatestRevisionNote: Stylized 3D Model Added.; DatasheetVersion: Nov-1996; PackageReference: 324C; Publisher: Altium Limited; PackageDescription: SSOP, Plastic; 28 Leads; Body Width 5.3 mm; Pitch 0.65 mm; Code_JEDEC: MO-150-AH; ComponentLink1Description: Manufacturer Link; ComponentLink1URL: http://www.ti.com/; ComponentLink2Description: Datasheet; ComponentLink2URL: http://www-s.ti.com/sc/ds/PCM1719.pdf
footprint 324C (SSOP, Plastic; 28 Leads; Body Width 5.3 mm; Pitch 0.65 mm)
3D model SSOP28 (SSOP, Plastic; 28 Leads; Body Width 5.3 mm; Pitch 0.65 mm)
pins: 1 XT IN (in), 2 DGND (power), 3 VDD (power), 4 LRC IN (in), 5 D IN (in), 6 B CLK IN (in), 7 ZERO (oc), 8 NC, 9 OUT R (out), 10 AGND (power), 11 P IN R (in), 12 PCOM (power), 13 P O R (out), 14 PAGND (power), 15 PVCC (power), 16 P O L (out), 17 PMUT (in), 18 P IN L (in), 19 V+ (power), 20 OUT L (out), 21 COM (power), 22 NC, 23 ~{RST} (in), 24 MD (in), 25 MC (in), 26 ML (in), 27 CLK O (out), 28 XT O (out)

## PCM1720
designator U?
Stereo Audio Digital-to-Analog Converter MPEG2/AC-3 Compatible; Note: Pin 1 and 18 are No internal Connection (NC) pins.; Published: 8-Jun-2000; LatestRevisionDate: 06-Jun-2005; LatestRevisionNote: Stylized 3D Model Added.; DatasheetVersion: Aug-1996; PackageReference: 334-1A; Publisher: Altium Limited; PackageDescription: SSOP, Plastic; 20 Leads; Body Width 5.3 mm; Pitch 0.65 mm; Code_JEDEC: MO-150-AE; ComponentLink1Description: Manufacturer Link; ComponentLink1URL: http://www.ti.com/; ComponentLink2Description: Datasheet; ComponentLink2URL: http://www-s.ti.com/sc/ds/PCM1720.pdf
footprint 334-1A (SSOP, Plastic; 20 Leads; Body Width 5.3 mm; Pitch 0.65 mm)
3D model SSOP20 (SSOP, Plastic; 20 Leads; Body Width 5.3 mm; Pitch 0.65 mm)
pins: 1 NC, 2 S CLK IN (in), 3 TST (out), 4 ML (in), 5 MC (in), 6 MD (in), 7 ~{RST} (in), 8 ZERO (oc), 9 OUT R (out), 10 AGND (power), 11 V+ (power), 12 OUT L (out), 13 CAP, 14 B CLK IN (in), 15 D IN (in), 16 LRCIN (in), 17 GND (power), 18 NC, 19 VDD (power), 20 DGND (power)

## PCM1721
designator U?
Stereo Audio Digital-to-Analog Converter with Programmable PLL; Note: Pin 24 is No internal Connection (NC) pin.; Published: 8-Jun-2000; LatestRevisionDate: 06-Jun-2005; LatestRevisionNote: Stylized 3D Model Added.; DatasheetVersion: 1996~1997; PackageReference: 338A; Publisher: Altium Limited; PackageDescription: SSOP, Plastic; 24 Leads; Body Width 5.3 mm; Pitch 0.65 mm; Code_JEDEC: MO-150-AG; ComponentLink1Description: Manufacturer Link; ComponentLink1URL: http://www.ti.com/
footprint 338A (SSOP, Plastic; 24 Leads; Body Width 5.3 mm; Pitch 0.65 mm)
3D model SSOP24 (SSOP, Plastic; 24 Leads; Body Width 5.3 mm; Pitch 0.65 mm)
pins: 1 MCK IN (in), 2 SCK O (out), 3 VDP (power), 4 SCK IN (in), 5 MCK O (out), 6 ML (in), 7 MC (in), 8 MD (in), 9 ~{RST} (in), 10 ZERO (oc), 11 V OUTR (out), 12 AGND (power), 13 V+ (power), 14 V OUTL (out), 15 CAP, 16 B CLK IN (in), 17 D IN (in), 18 LRC IN (in), 19 XT IN (in), 20 XT O (out), 21 VDD (power), 22 DGND (power), 23 PGND (power), 24 NC